# EAGLE library part 27128_OS_ROM (library logik)
16K x 8 PROM
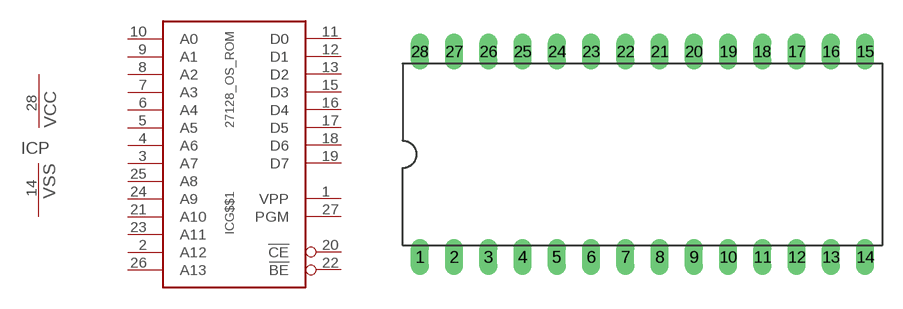
[diagram p19: symbol with the pads of DIL28; footprint DIL28]

Designator prefix IC; gates G$$1=27128_OS_ROM P=VCCVSS

## 27128_OS_ROM  [DIL28]
1  G$$1:VPP  in
2  G$$1:A12  in
3  G$$1:A7  in
4  G$$1:A6  in
5  G$$1:A5  in
6  G$$1:A4  in
7  G$$1:A3  in
8  G$$1:A2  in
9  G$$1:A1  in
10  G$$1:A0  in
11  G$$1:D0  out
12  G$$1:D1  out
13  G$$1:D2  out
14  P:VSS  pwr
15  G$$1:D3  out
16  G$$1:D4  out
17  G$$1:D5  out
18  G$$1:D6  out
19  G$$1:D7  out
20  G$$1:!CE  in
21  G$$1:A10  in
22  G$$1:!BE  in
23  G$$1:A11  in
24  G$$1:A9  in
25  G$$1:A8  in
26  G$$1:A13  in
27  G$$1:PGM  in
28  P:VCC  pwr

## Footprint DIL28 (pad centres in mm)
drill 0.813 long: 1 -16.51,-7.62; 2 -13.97,-7.62; 3 -11.43,-7.62; 4 -8.89,-7.62; 5 -6.35,-7.62; 6 -3.81,-7.62; 7 -1.27,-7.62; 8 1.27,-7.62; 9 3.81,-7.62; 10 6.35,-7.62; 11 8.89,-7.62; 12 11.43,-7.62; 13 13.97,-7.62; 14 16.51,-7.62; 15 16.51,7.62; 16 13.97,7.62; 17 11.43,7.62; 18 8.89,7.62; 19 6.35,7.62; 20 3.81,7.62; 21 1.27,7.62; 22 -1.27,7.62; 23 -3.81,7.62; 24 -6.35,7.62; 25 -8.89,7.62; 26 -11.43,7.62; 27 -13.97,7.62; 28 -16.51,7.62